# Altium schematic symbol library Capacitor.SchLib: 28 symbols
Pins are listed as number, name and electrical type; pins without a type are passive.

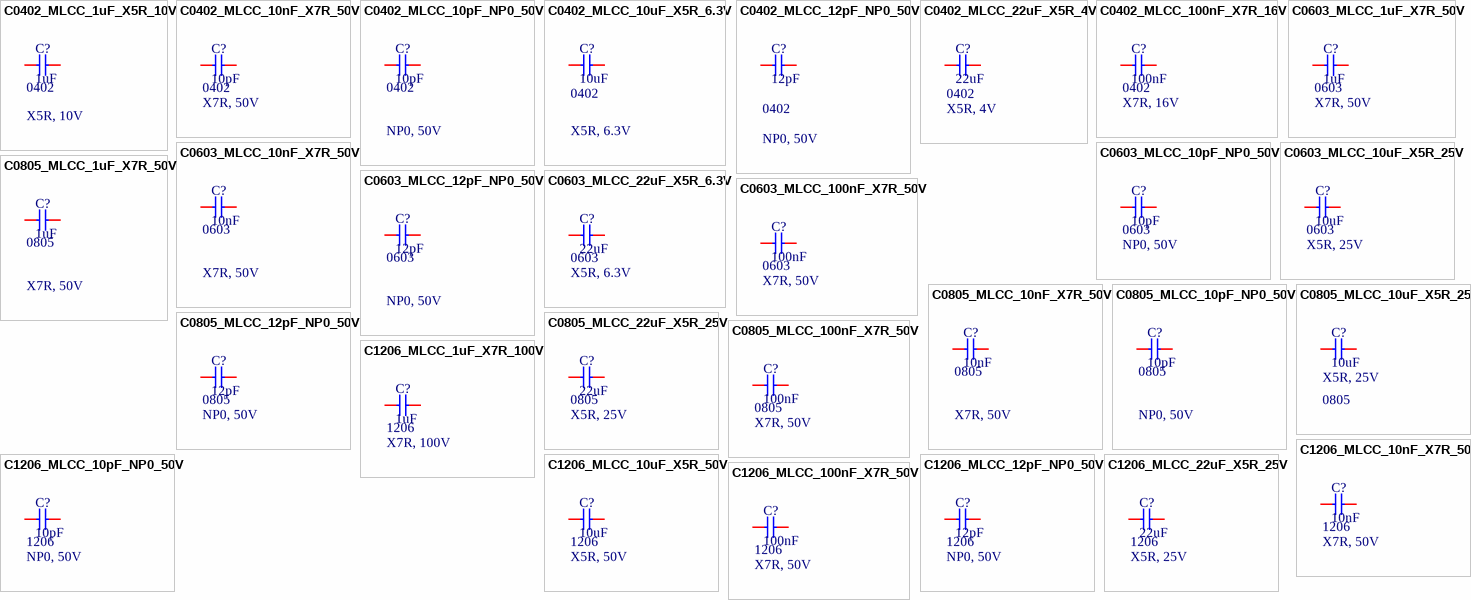
[diagram p0: symbols C0402_MLCC_1uF_X5R_10V to C1206_MLCC_100nF_X7R_50V]

## C0402_MLCC_1uF_X5R_10V
designator C?, comment 1uF  Temperature Coefficient: X5R, 10V  Package: 0402
10V 1uF X5R ±10% 0402 Multilayer Ceramic Capacitors MLCC - SMD/SMT ROHS; Manufacturer: YAGEO; Mfr. Part: CC0402KRX5R6BB105; LCSC Part: C106254; Capacitance: 1uF; Link: https://www.lcsc.com/product-detail/C106254.html; Tolerance: ±10%; Voltage Rating: 10V
footprint C0402
pins: 1, 6

## C0402_MLCC_10nF_X7R_50V
designator C?, comment 10pF  Temperature Coefficient: X7R, 50V  Package: 0402
50V 10nF X7R ±10% 0402 Multilayer Ceramic Capacitors MLCC - SMD/SMT ROHS; Manufacturer: YAGEO; Mfr. Part: CC0402KRX7R9BB103; LCSC Part: C60133; Capacitance: 10pF; Link: https://www.lcsc.com/product-detail/C60133.html; Tolerance: ±10%; Voltage Rating: 50V
footprint C0402
pins: 1, 6

## C0402_MLCC_10pF_NP0_50V
designator C?, comment 10pF  Temperature Coefficient: NP0, 50V  Package: 0402
50V 10pF NP0 ±5% 0402 Multilayer Ceramic Capacitors MLCC - SMD/SMT ROHS; Manufacturer: YAGEO; Mfr. Part: CC0402JRNPO9BN100; LCSC Part: C106199; Capacitance: 10pF; Link: https://www.lcsc.com/product-detail/C106199.html; Tolerance: ±5%; Voltage Rating: 50V
footprint C0402
pins: 1, 6

## C0402_MLCC_10uF_X5R_6.3V
designator C?, comment 10uF  Package: 0402  Temperature Coefficient: X5R, 6.3V
6.3V 10uF X5R ±20% 0402 Multilayer Ceramic Capacitors MLCC - SMD/SMT ROHS; Manufacturer: YAGEO; Mfr. Part: CC0402MRX5R5BB106; LCSC Part: C105884; Capacitance: 10uF; Link: https://www.lcsc.com/product-detail/C105884.html; Tolerance: ±20%; Voltage Rating: 6.3V
footprint C0402
pins: 1, 6

## C0402_MLCC_12pF_NP0_50V
designator C?, comment 12pF  Package: 0402  Temperature Coefficient: NP0, 50V
50V 12pF NP0 ±5% 0402 Multilayer Ceramic Capacitors MLCC - SMD/SMT ROHS; Manufacturer: YAGEO; Mfr. Part: CC0402JRNPO9BN120; LCSC Part: C106201; Capacitance: 12pF; Link: https://www.lcsc.com/product-detail/C106201.html; Tolerance: ±5%; Voltage Rating: 50V
footprint C0402
pins: 1, 6

## C0402_MLCC_22uF_X5R_4V
designator C?, comment 22uF  Temperature Coefficient: X5R, 4V  Package: 0402
4V 22uF X5R ±20% 0402 Multilayer Ceramic Capacitors MLCC - SMD/SMT ROHS; Manufacturer: YAGEO; Mfr. Part: CC0402MRX5R4BB226; LCSC Part: C1621763; Capacitance: 22uF; Link: https://www.lcsc.com/product-detail/C1621763.html; Tolerance: ±20%; Voltage Rating: 4V
footprint C0402
pins: 1, 6

## C0402_MLCC_100nF_X7R_16V
designator C?, comment 100nF  Temperature Coefficient: X7R, 16V  Package: 0402
16V 100nF X7R ±10% 0402 Multilayer Ceramic Capacitors MLCC - SMD/SMT ROHS; Manufacturer: YAGEO; Mfr. Part: CC0402KRX7R7BB104; LCSC Part: C60474; Capacitance: 100nF; Link: https://www.lcsc.com/product-detail/C60474.html; Tolerance: ±10%; Voltage Rating: 16V
footprint C0402
pins: 1, 6

## C0603_MLCC_1uF_X7R_50V
designator C?, comment 1uF  Temperature Coefficient: X7R, 50V  Package: 0603
50V 1uF X7R ±10% 0603 Multilayer Ceramic Capacitors MLCC - SMD/SMT ROHS; Manufacturer: YAGEO; Mfr. Part: CC0603KRX7R9BB105; LCSC Part: C559769; Capacitance: 1uF; Link: https://www.lcsc.com/product-detail/C559769.html; Tolerance: ±10%; Voltage Rating: 50V
footprint C0603
pins: 1, 6

## C0603_MLCC_10nF_X7R_50V
designator C?, comment 10nF  Temperature Coefficient: X7R, 50V  Package: 0603
50V 10nF X7R ±10% 0603 Multilayer Ceramic Capacitors MLCC - SMD/SMT ROHS; Manufacturer: YAGEO; Mfr. Part: CC0603KRX7R9BB103; LCSC Part: C100042; Capacitance: 10nF; Link: https://www.lcsc.com/product-detail/C100042.html; Tolerance: ±10%; Voltage Rating: 50V
footprint C0603
pins: 1, 6

## C0603_MLCC_10pF_NP0_50V
designator C?, comment 10pF  Temperature Coefficient: NP0, 50V  Package: 0603
50V 10pF NP0 ±5% 0603 Multilayer Ceramic Capacitors MLCC - SMD/SMT ROHS; Manufacturer: YAGEO; Mfr. Part: CC0603JRNPO9BN100; LCSC Part: C106245; Capacitance: 10pF; Link: https://www.lcsc.com/product-detail/C106245.html; Tolerance: ±5%; Voltage Rating: 50V
footprint C0603
pins: 1, 6

## C0603_MLCC_10uF_X5R_25V
designator C?, comment 10uF  Temperature Coefficient: X5R, 25V  Package: 0603
25V 10uF X5R ±20% 0603 Multilayer Ceramic Capacitors MLCC - SMD/SMT ROHS; Manufacturer: YAGEO; Mfr. Part: CC0603MRX5R8BB106; LCSC Part: C596327; Capacitance: 10uF; Link: https://www.lcsc.com/product-detail/C596327.html; Tolerance: ±20%; Voltage Rating: 25V
footprint C0603
pins: 1, 6

## C0603_MLCC_12pF_NP0_50V
designator C?, comment 12pF  Temperature Coefficient: NP0, 50V  Package: 0603
50V 12pF NP0 ±5% 0603 Multilayer Ceramic Capacitors MLCC - SMD/SMT ROHS; Manufacturer: YAGEO; Mfr. Part: CC0603JRNPO9BN120; LCSC Part: C107034; Capacitance: 12pF; Link: https://www.lcsc.com/product-detail/C107034.html; Tolerance: ±5%; Voltage Rating: 50V
footprint C0603
pins: 1, 6

## C0603_MLCC_22uF_X5R_6.3V
designator C?, comment 22uF  Temperature Coefficient: X5R, 6.3V  Package: 0603
6.3V 22uF X5R ±20% 0603 Multilayer Ceramic Capacitors MLCC - SMD/SMT ROHS; Manufacturer: YAGEO; Mfr. Part: CC0603MRX5R5BB226; LCSC Part: C109448; Capacitance: 22uF; Link: https://www.lcsc.com/product-detail/C109448.html; Voltage Rating: 6.3V; Tolerance: ±20%
footprint C0603
pins: 1, 6

## C0603_MLCC_100nF_X7R_50V
designator C?, comment 100nF  Temperature Coefficient: X7R, 50V  Package: 0603
50V 100nF X7R ±10% 0603 Multilayer Ceramic Capacitors MLCC - SMD/SMT ROHS; Manufacturer: YAGEO; Mfr. Part: CC0603KRX7R9BB104; LCSC Part: C14663; Capacitance: 100nF; Link: https://www.lcsc.com/product-detail/C14663.html; Tolerance: ±10%; Voltage Rating: 50V
footprint C0603
pins: 1, 6

## C0805_MLCC_1uF_X7R_50V
designator C?, comment 1uF  Temperature Coefficient: X7R, 50V  Package: 0805
50V 1uF X7R ±10% 0805 Multilayer Ceramic Capacitors MLCC - SMD/SMT ROHS; Manufacturer: YAGEO; Mfr. Part: CC0805KKX7R9BB105; LCSC Part: C91185; Capacitance: 1uF; Link: https://www.lcsc.com/product-detail/C91185.html; Tolerance: ±10%; Voltage Rating: 50V
footprint C0805
pins: 1, 6

## C0805_MLCC_10nF_X7R_50V
designator C?, comment 10nF  Temperature Coefficient: X7R, 50V  Package: 0805
50V 10nF X7R ±10% 0805 Multilayer Ceramic Capacitors MLCC - SMD/SMT ROHS; Manufacturer: YAGEO; Mfr. Part: CC0805KRX7R9BB103; LCSC Part: C83170; Capacitance: 10nF; Link: https://www.lcsc.com/product-detail/C83170.html; Tolerance: ±10%; Voltage Rating: 50V
footprint C0805
pins: 1, 6

## C0805_MLCC_10pF_NP0_50V
designator C?, comment 10pF  Temperature Coefficient: NP0, 50V  Package: 0805
50V 10pF NP0 ±5% 0805 Multilayer Ceramic Capacitors MLCC - SMD/SMT ROHS; Manufacturer: YAGEO; Mfr. Part: CC0805JRNPO9BN100; LCSC Part: C107107; Capacitance: 10pF; Link: https://www.lcsc.com/product-detail/C107107.html; Tolerance: ±5%; Voltage Rating: 50V
footprint C0805
pins: 1, 6

## C0805_MLCC_10uF_X5R_25V
designator C?, comment 10uF  Temperature Coefficient: X5R, 25V  Package: 0805
25V 10uF X5R ±10% 0805 Multilayer Ceramic Capacitors MLCC - SMD/SMT ROHS; Manufacturer: YAGEO; Mfr. Part: CC0805KKX5R8BB106; LCSC Part: C89831; Capacitance: 10uF; Link: https://www.lcsc.com/product-detail/C89831.html; Tolerance: ±10%; Voltage Rating: 25V
footprint C0805
pins: 1, 6

## C0805_MLCC_12pF_NP0_50V
designator C?, comment 12pF  Temperature Coefficient: NP0, 50V  Package: 0805
50V 12pF NP0 ±5% 0805 Multilayer Ceramic Capacitors MLCC - SMD/SMT ROHS; Manufacturer: YAGEO; Mfr. Part: CC0805JRNPO9BN120; LCSC Part: C107108; Capacitance: 12pF; Link: https://www.lcsc.com/product-detail/C107107.html; Tolerance: ±5%; Voltage Rating: 50V
footprint C0805
pins: 1, 6

## C0805_MLCC_22uF_X5R_25V
designator C?, comment 22uF  Temperature Coefficient: X5R, 25V  Package: 0805
25V 22uF X5R ±20% 0805 Multilayer Ceramic Capacitors MLCC - SMD/SMT ROHS; Manufacturer: YAGEO; Mfr. Part: CC0805MKX5R8BB226; LCSC Part: C784585; Capacitance: 22uF; Link: https://www.lcsc.com/product-detail/C784585.html; Tolerance: ±20%; Voltage Rating: 25V
footprint C0805
pins: 1, 6

## C0805_MLCC_100nF_X7R_50V
designator C?, comment 100nF  Temperature Coefficient: X7R, 50V  Package: 0805
50V 100nF X7R ±10% 0805 Multilayer Ceramic Capacitors MLCC - SMD/SMT ROHS; Manufacturer: YAGEO; Mfr. Part: CC0805KRX7R9BB104; LCSC Part: C49678; Capacitance: 100nF; Link: https://www.lcsc.com/product-detail/C49678.html; Tolerance: ±10%; Voltage Rating: 50V
footprint C0805
pins: 1, 6

## C1206_MLCC_1uF_X7R_100V
designator C?, comment 1uF  Temperature Coefficient: X7R, 100V  Package: 1206
100V 1uF X7R ±10% 1206 Multilayer Ceramic Capacitors MLCC - SMD/SMT ROHS; Manufacturer: YAGEO; Mfr. Part: CC1206KKX7R0BB105; LCSC Part: C70463; Capacitance: 1uF; Link: https://www.lcsc.com/product-detail/C70463.html; Tolerance: ±10%; Voltage Rating: 100V
footprint C1206
pins: 1, 6

## C1206_MLCC_10nF_X7R_50V
designator C?, comment 10nF  Temperature Coefficient: X7R, 50V  Package: 1206
50V 10nF X7R ±10% 1206 Multilayer Ceramic Capacitors MLCC - SMD/SMT ROHS; Manufacturer: YAGEO; Mfr. Part: CC1206KRX7R9BB103; LCSC Part: C106239; Capacitance: 10nF; Link: https://www.lcsc.com/product-detail/C106239.html; Tolerance: ±10%; Voltage Rating: 50V
footprint C1206
pins: 1, 6

## C1206_MLCC_10pF_NP0_50V
designator C?, comment 10pF  Temperature Coefficient: NP0, 50V  Package: 1206
50V 10pF NP0 ±5% 1206 Multilayer Ceramic Capacitors MLCC - SMD/SMT ROHS; Manufacturer: YAGEO; Mfr. Part: CC1206JRNPO9BN100; LCSC Part: C326850; Capacitance: 10pF; Link: https://www.lcsc.com/product-detail/C326850.html; Tolerance: ±5%; Voltage Rating: 50V
footprint C1206
pins: 1, 6

## C1206_MLCC_10uF_X5R_50V
designator C?, comment 10uF  Temperature Coefficient: X5R, 50V  Package: 1206
50V 10uF X5R ±10% 1206 Multilayer Ceramic Capacitors MLCC - SMD/SMT ROHS; Manufacturer: YAGEO; Mfr. Part: CC1206KKX5R9BB106; LCSC Part: C100122; Capacitance: 10uF; Link: https://www.lcsc.com/product-detail/C100122.html; Tolerance: ±10%; Voltage Rating: 50V
footprint C1206
pins: 1, 6

## C1206_MLCC_12pF_NP0_50V
designator C?, comment 12pF  Temperature Coefficient: NP0, 50V  Package: 1206
50V 12pF NP0 ±5% 1206 Multilayer Ceramic Capacitors MLCC - SMD/SMT ROHS; Manufacturer: YAGEO; Mfr. Part: CC1206JRNPO9BN120; LCSC Part: C113882; Capacitance: 12pF; Link: https://www.lcsc.com/product-detail/C113882.html; Tolerance: ±5%; Voltage Rating: 50V
footprint C1206
pins: 1, 6

## C1206_MLCC_22uF_X5R_25V
designator C?, comment 22uF  Temperature Coefficient: X5R, 25V  Package: 1206
25V 22uF X5R ±10% 1206 Multilayer Ceramic Capacitors MLCC - SMD/SMT ROHS; Manufacturer: YAGEO; Mfr. Part: CC1206KKX5R8BB226; LCSC Part: C2178233; Capacitance: 22uF; Link: https://www.lcsc.com/product-detail/C2178233.html; Tolerance: ±10%; Voltage Rating: 25V
footprint C1206
pins: 1, 6

## C1206_MLCC_100nF_X7R_50V
designator C?, comment 100nF  Temperature Coefficient: X7R, 50V  Package: 1206
50V 100nF X7R ±10% 1206 Multilayer Ceramic Capacitors MLCC - SMD/SMT ROHS; Manufacturer: YAGEO; Mfr. Part: CC1206KRX7R9BB104; LCSC Part: C82601; Capacitance: 100nF; Link: https://www.lcsc.com/product-detail/C82601.html; Tolerance: ±10%; Voltage Rating: 50V
footprint C1206
pins: 1, 6